# Altium schematic symbol library Antenna_External.Schlib: 1 symbol
Pins are listed as number, name and electrical type; pins without a type are passive.

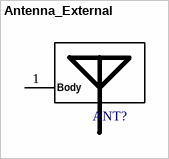
[diagram p0: symbol Antenna_External]

## Antenna_External
designator ANT?
Antenna symbol with no direct electrical connection to the PCB
pins: 1
text: Body